# Altium footprint library 691 231 510 0xx.PcbLib: 2 footprints
Each footprint in its own frame and in the unit in brackets; x right, y up, seen from the top. Pads: shape width x height; smd on the part's side, far side on the other; paste and mask are expansions set on the pad; w line width, h text height; cw(c..) or ccw(c..) is an arc to the next point about the centre after c.
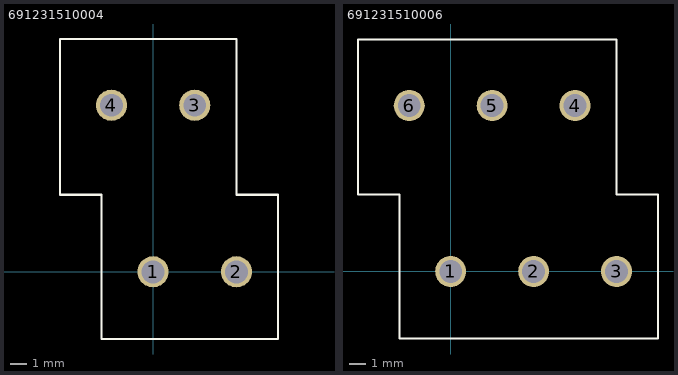
[diagram p0: the footprints below, top view; thin cyan lines are the x and y axes]

## 691231510004 [mm] "5,08mm - modular - 2 rows - Right - horizontal entry with rising cage clamp - 04p - h=19,1mm"
height 19.1
pads (4):
  round 1.9 hole 1.4: 1(0,0) 2(5.08,0) 3(2.54,10.16) 4(-2.54,10.16)
Top Overlay:
  lines w0.127: -5.68,4.7 -5.68,14.2 5.08,14.2 5.08,4.7 7.62,4.7 7.62,-4.1 -3.14,-4.1 -3.14,4.7 -5.68,4.7
3D body: height 19.11, standoff -3.49, extent -5.68,-4.1 7.62,14.2

## 691231510006 [mm] "5,08mm - modular - 2 rows - Right - horizontal entry with rising cage clamp - 06p - h=19,1mm"
height 19.1
pads (6):
  round 1.9 hole 1.4: 1(0,0) 2(5.08,0) 3(10.16,0) 4(7.62,10.16) 5(2.54,10.16) 6(-2.54,10.16)
Top Overlay:
  lines w0.127: -5.68,4.7 -3.14,4.7 -3.14,-4.1 12.7,-4.1 12.7,4.7 10.16,4.7 10.16,14.2 -5.68,14.2 -5.68,4.7
3D body: height 19.11, standoff -3.49, extent -5.68,-4.1 12.7,14.2